# Altium schematic symbol library 691 214 310 0xx.SchLib: 2 symbols
Pins are listed as number, name and electrical type; pins without a type are passive.

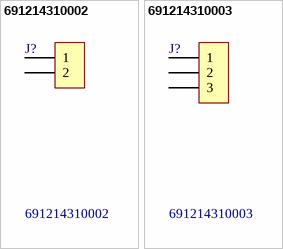
[diagram p0: symbols 691214310002 to 691214310003]

## 691214310002
designator J?
WR-TBL Horizontal Entry Modular,Serie 2143 - 3.81 mm with Rising Cage Clamp; Manufacturer: Würth Elektronik eiSos GmbH; ComponentLink1 Description: Manufacturer; ComponentLink2 Description: Datasheet; NoPins: 2; Created Date: 14 Novenber 2013; partNo: 691214310002; ComponentLink1URL: http://www.we-online.com; ComponentLink2URL: http://katalog.we-online.de/em/datasheet/6912143100xx.pdf; Created by: Karrer Zheng
footprint 691214310002 (3,81mm - Horizontal wire entry - Rising cage clamp - 02p)
pins: 1, 2

## 691214310003
designator J?
WR-TBL Horizontal Entry Modular,Serie 2143 - 3.81 mm with Rising Cage Clamp; Manufacturer: Würth Elektronik eiSos GmbH; ComponentLink1 Description: Manufacturer; ComponentLink2 Description: Datasheet; NoPins: 3; Created Date: 14 Novenber 2013; partNo: 691214310003; ComponentLink1URL: http://www.we-online.com; ComponentLink2URL: http://katalog.we-online.de/em/datasheet/6912143100xx.pdf; Created by: Karrer Zheng
footprint 691214310003 (3,81mm - Horizontal wire entry - Rising cage clamp - 03p)
pins: 1, 2, 3